# Altium footprint library NCP1117IDT50T4G.PcbLib: 1 footprints
Each footprint in its own frame and in the unit in brackets; x right, y up, seen from the top. Pads: shape width x height; smd on the part's side, far side on the other; paste and mask are expansions set on the pad; w line width, h text height; cw(c..) or ccw(c..) is an arc to the next point about the centre after c.
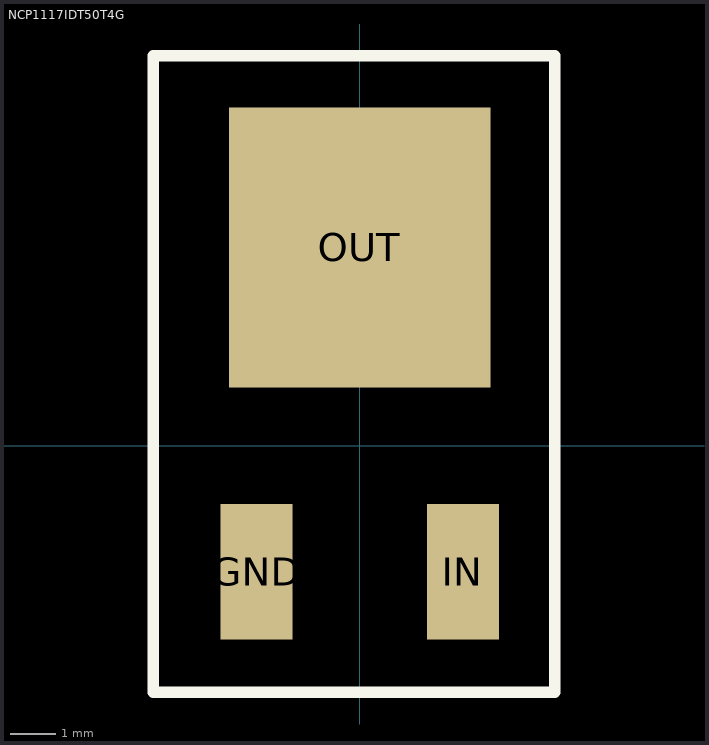
[diagram p0: the footprint, top view; thin cyan lines are the x and y axes]

## NCP1117IDT50T4G [mm]
pads (3):
  rect 1.6x3 smd: GND(-2.285,-2.79) IN(2.285,-2.79)
  rect 5.8x6.2 smd: OUT(0,4.39)
Top Overlay:
  lines w0.254: -4.572,-5.461 -4.572,8.128 -4.572,8.636 4.318,8.636 4.318,-5.461 -4.572,-5.461